# EAGLE library part SOIC8_GENERIC (library Generic footprints)
SOIC-8 breakout board Made from datasheet I googled: http://cds.linear.com/docs/en/packaging/05081857_A_S8E.pdf
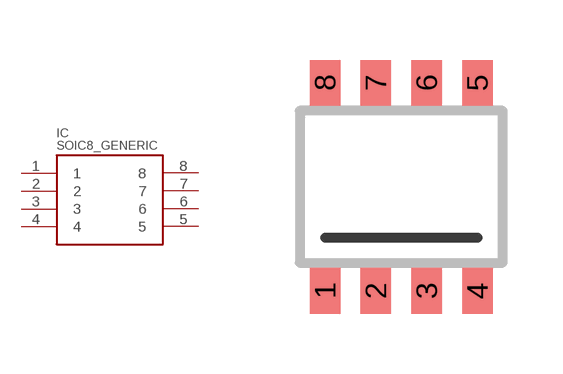
[diagram p0: symbol with the pads of SOIC8; footprint SOIC8]

Designator prefix IC

## SOIC8_GENERIC  [SOIC8]
1  1
2  2
3  3
4  4
5  5
6  6
7  7
8  8

## Footprint SOIC8 (pad centres in mm)
smd 0.762 x 1.143: 1 -1.905,-2.603; 2 -0.635,-2.603; 3 0.635,-2.603; 4 1.905,-2.603; 5 1.905,2.603; 6 0.635,2.603; 7 -0.635,2.603; 8 -1.905,2.603